# Altium footprint library L_RLB0914_FIX.PcbLib: 1 footprints
Each footprint in its own frame and in the unit in brackets; x right, y up, seen from the top. Pads: shape width x height; smd on the part's side, far side on the other; paste and mask are expansions set on the pad; w line width, h text height; cw(c..) or ccw(c..) is an arc to the next point about the centre after c.
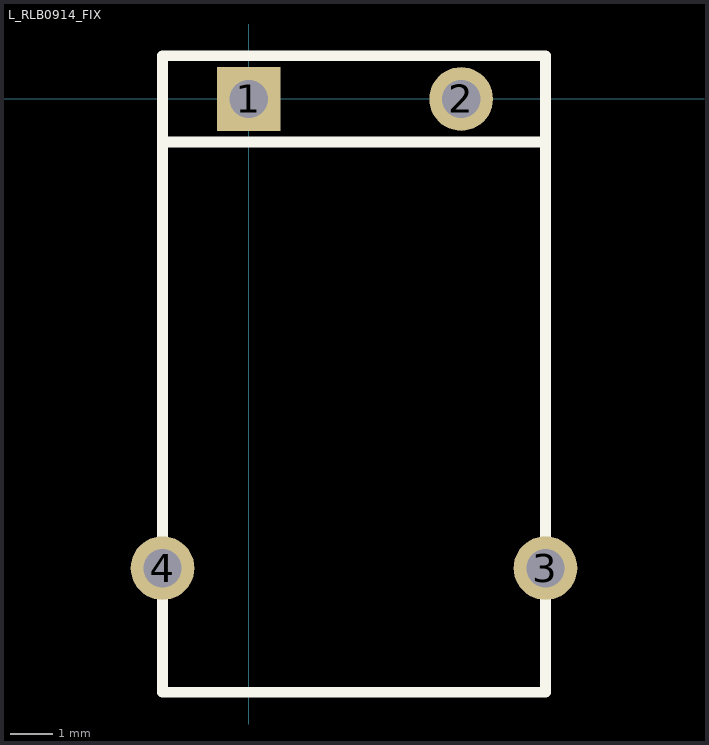
[diagram p0: the footprint, top view; thin cyan lines are the x and y axes]

## L_RLB0914_FIX [mm]
pads (4):
  rect 1.5x1.5 hole 0.9: 1(0,0)
  round 1.5 hole 0.9: 2(5,0) 3(6.985,-11.049) 4(-2.032,-11.049)
Top Overlay:
  lines w0.254: -2.032,-1.016 6.985,-1.016 ; -2.032,-1.016 -2.032,1.016 6.985,1.016 6.985,-1.016 ; -2.032,-1.016 -2.032,-13.97 6.985,-13.97 6.985,-1.016